# Altium schematic symbol library RES,ISENSE,500µ,1%,5W,1216.Schlib: 1 symbol
Pins are listed as number, name and electrical type; pins without a type are passive.

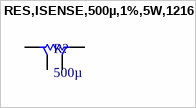
[diagram p0: symbol RES,ISENSE,500µ,1%,5W,1216]

## RES,ISENSE,500µ,1%,5W,1216
designator R?, comment 500µ
500 µOhms ±1% 5W Chip Resistor Nonstandard Current Sense, Moisture Resistant Metal Element
pins: 1, 1, 2, 2